# Altium integrated library INA226AIDGSR.IntLib: 1 symbol
Pins are listed as number, name and electrical type; pins without a type are passive.

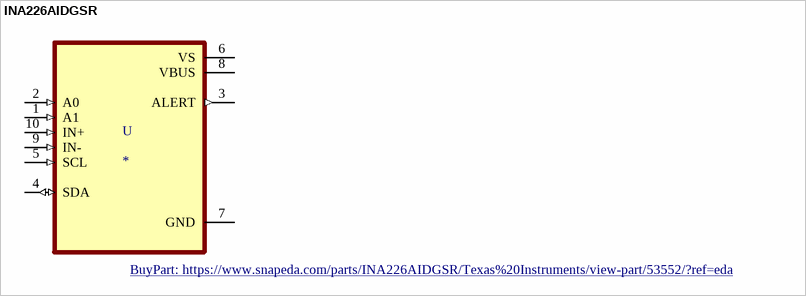
[diagram p0: symbol INA226AIDGSR]

## INA226AIDGSR
designator U
36V, 16-bit, ultra-precise i2c output current/voltage/power monitor w/alert 10-VSSOP -40 to 125; MF: Texas Instruments; MP: INA226AIDGSR; Arrow_Electronics-Purchase-URL: https://snapeda.com/shop?store=Arrow+Electronics&id=53552; Texas_Instruments-Purchase-URL: https://snapeda.com/shop?store=Texas+Instruments&id=53552; SnapEDA_Link: https://www.snapeda.com/parts/INA226AIDGSR/Texas%20Instruments/view-part/53552/?ref=snap; Value: *; Package: VSSOP-10 Texas Instruments; DigiKey-Purchase-URL: https://snapeda.com/shop?store=DigiKey&id=53552; Availability: Good; Price: None; Mouser-Purchase-URL: https://snapeda.com/shop?store=Mouser&id=53552; BuyPart: https://www.snapeda.com/parts/INA226AIDGSR/Texas%20Instruments/view-part/53552/?ref=eda
footprint SOP50P490X110-10N
pins: 1 A1 (in), 2 A0 (in), 3 ALERT (out), 4 SDA (io), 5 SCL (in), 6 VS (power), 7 GND (power), 8 VBUS (power), 9 IN- (in), 10 IN+ (in)